# EAGLE library part TB6612 (library dooba)
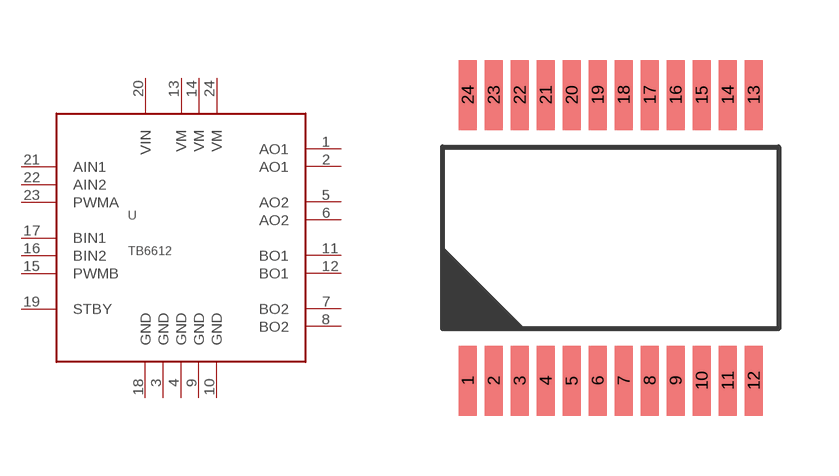
[diagram p34: symbol with the pads of SSOP24; footprint SSOP24]

Designator prefix -

## TB6612SSOP24  [SSOP24]
1  AO1
2  AO1
3  GND
4  GND
5  AO2
6  AO2
7  BO2
8  BO2
9  GND
10  GND
11  BO1
12  BO1
13  VM
14  VM
15  PWMB
16  BIN2
17  BIN1
18  GND
19  STBY
20  VIN
21  AIN1
22  AIN2
23  PWMA
24  VM

## Footprint SSOP24 (pad centres in mm)
smd 0.45 x 1.75: 1 -3.575,-3.575; 2 -2.925,-3.575; 3 -2.275,-3.575; 4 -1.625,-3.575; 5 -0.975,-3.575; 6 -0.325,-3.575; 7 0.325,-3.575; 8 0.975,-3.575; 9 1.625,-3.575; 10 2.275,-3.575; 11 2.925,-3.575; 12 3.575,-3.575; 13 3.575,3.575; 14 2.925,3.575; 15 2.275,3.575; 16 1.625,3.575; 17 0.975,3.575; 18 0.325,3.575; 19 -0.325,3.575; 20 -0.975,3.575; 21 -1.625,3.575; 22 -2.275,3.575; 23 -2.925,3.575; 24 -3.575,3.575